# Altium schematic symbol library TB002-500-02BE.SchLib: 1 symbol
Pins are listed as number, name and electrical type; pins without a type are passive.

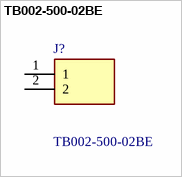
[diagram p0: symbol TB002-500-02BE]

## TB002-500-02BE
designator J?
TB002-500 Series - 2~24 Poles, Screw Type, Horizontal, 5.0 Pitch, 22~12 (AWG), Terminal Block Connector; Manufacturer_Name: Same Sky; Geometry.Height: 10.4mm; Mouser Part Number: 490-TB002-500-02BE; Mouser Price/Stock: https://www.mouser.co.uk/ProductDetail/Same-Sky/TB002-500-02BE?qs=vLWxofP3U2x9716kcgva%2Fw%3D%3D; Manufacturer_Part_Number: TB002-500-02BE; Datasheet Link: https://www.sameskydevices.com/product/resource/tb002-500.pdf
footprint TB00250002BE
pins: 1, 2